# Altium integrated library Connectors.IntLib: 10 symbols
Pins are listed as number, name and electrical type; pins without a type are passive.

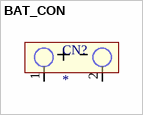
[diagram p0: symbol BAT_CON]

## BAT_CON
designator CN?
Batarey_connection
footprint Batarey_connector
footprint FP-PRT-10474-MFG
pins: 1 +, 2 -


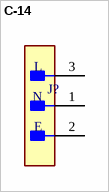
[diagram p1: symbol C-14]

## C-14
designator J?, comment L-PE-N  (value not drawn)
footprint L-PE-N_Connector_C-14
footprint L-PE-N_Connector_C-14_Qualtec
pins: 1 N, 2 E, 3 L


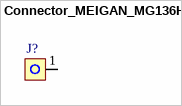
[diagram p2: symbol Connector_MEIGAN_MG136HT]

## Connector_MEIGAN_MG136HT
designator J?, comment MG_136_HT  (value not drawn)
footprint Conn_MEIGAN_MG136HT
pins: 1 17


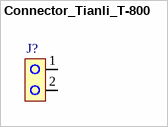
[diagram p3: symbol Connector_Tianli_T-800]

## Connector_Tianli_T-800
designator J?, comment TL-800  (value not drawn)
footprint Conn_Tianli_T-800
pins: 1 17, 2


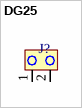
[diagram p4: symbol DG25]

## DG25
designator J?, comment DEGSON  (value not drawn)
footprint DEGSON_DG25
pins: 1, 2


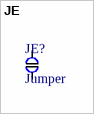
[diagram p5: symbol JE]

## JE
designator JE?, comment Jumper
footprint JE
pins: 1, 2


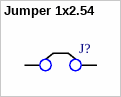
[diagram p6: symbol Jumper 1x2.54]

## Jumper 1x2.54
designator J?  (value not drawn)
footprint Jumper_2.54
pins: 1, 2


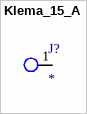
[diagram p7: symbol Klema_15_A]

## Klema_15_A
designator J?
footprint Klema_PCB_15A
pins: 1 0


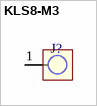
[diagram p8: symbol KLS8-M3]

## KLS8-M3
designator J?  (value not drawn)
footprint KLS8-M3
pins: 1


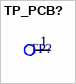
[diagram p9: symbol TP_PCB?]

## TP_PCB?
designator TP?, comment Test_Point_PCB  (value not drawn)
Test_Point
footprint Test_Point
pins: 1 G9